# EAGLE library part DB9 (library STUNTAZ)
DB9 Connector Standard DB9 (D-Sub 9) serial connector. Can be used for CAN bus as well as RS485 and RS232. Footprint production proven. Spark Fun Electronics SKU : PRT-00429
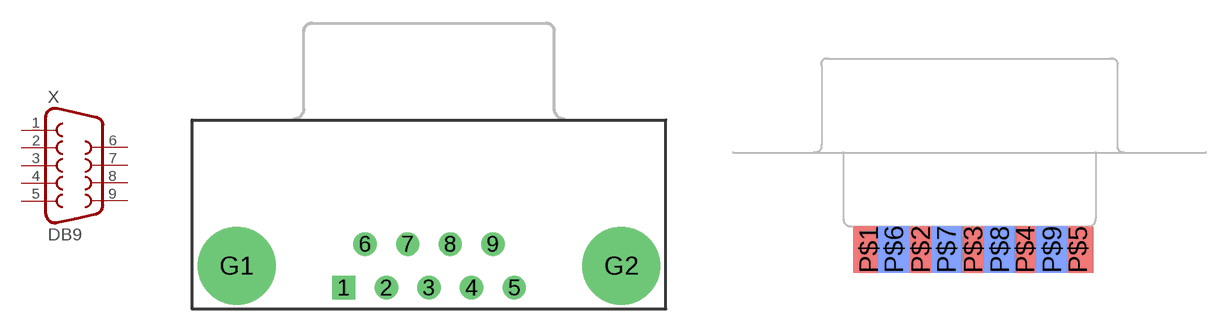
[diagram p4: symbol with the pads of DB9; footprints DB9, DB9-SANDWICH]

Designator prefix X

## DB9  [DB9]
1  1  pas
2  2  pas
3  3  pas
4  4  pas
5  5  pas
6  6  pas
7  7  pas
8  8  pas
9  9  pas

## DB9SANDWICH  [DB9-SANDWICH]
P$1  1  pas
P$2  2  pas
P$3  3  pas
P$4  4  pas
P$5  5  pas
P$6  6  pas
P$7  7  pas
P$8  8  pas
P$9  9  pas

## Footprint DB9 (pad centres in mm)
SUB-D
drill 1.016 square: 1 -5.54,-1.42
drill 1.016 round: 2 -2.77,-1.42; 3 0,-1.42; 4 2.77,-1.42; 5 5.54,-1.42; 6 -4.15,1.42; 7 -1.38,1.42; 8 1.38,1.42; 9 4.15,1.42
drill 3.302 pad 5.08 round: G1 -12.5,0; G2 12.5,0

## Footprint DB9-SANDWICH (pad centres in mm)
SUB-D
smd 2 x 3: P$1 8.74,-6.25; P$2 12.08,-6.25; P$3 15.45,-6.25; P$4 18.79,-6.25; P$5 22.18,-6.25
smd 2 x 3 bottom: P$6 10.36,-6.25; P$7 13.74,-6.25; P$8 17.16,-6.25; P$9 20.52,-6.25